# Altium integrated library Analog Devices Data Converters Analog-to-Digital Converters.IntLib: 2400 symbols (part 197 of 338)
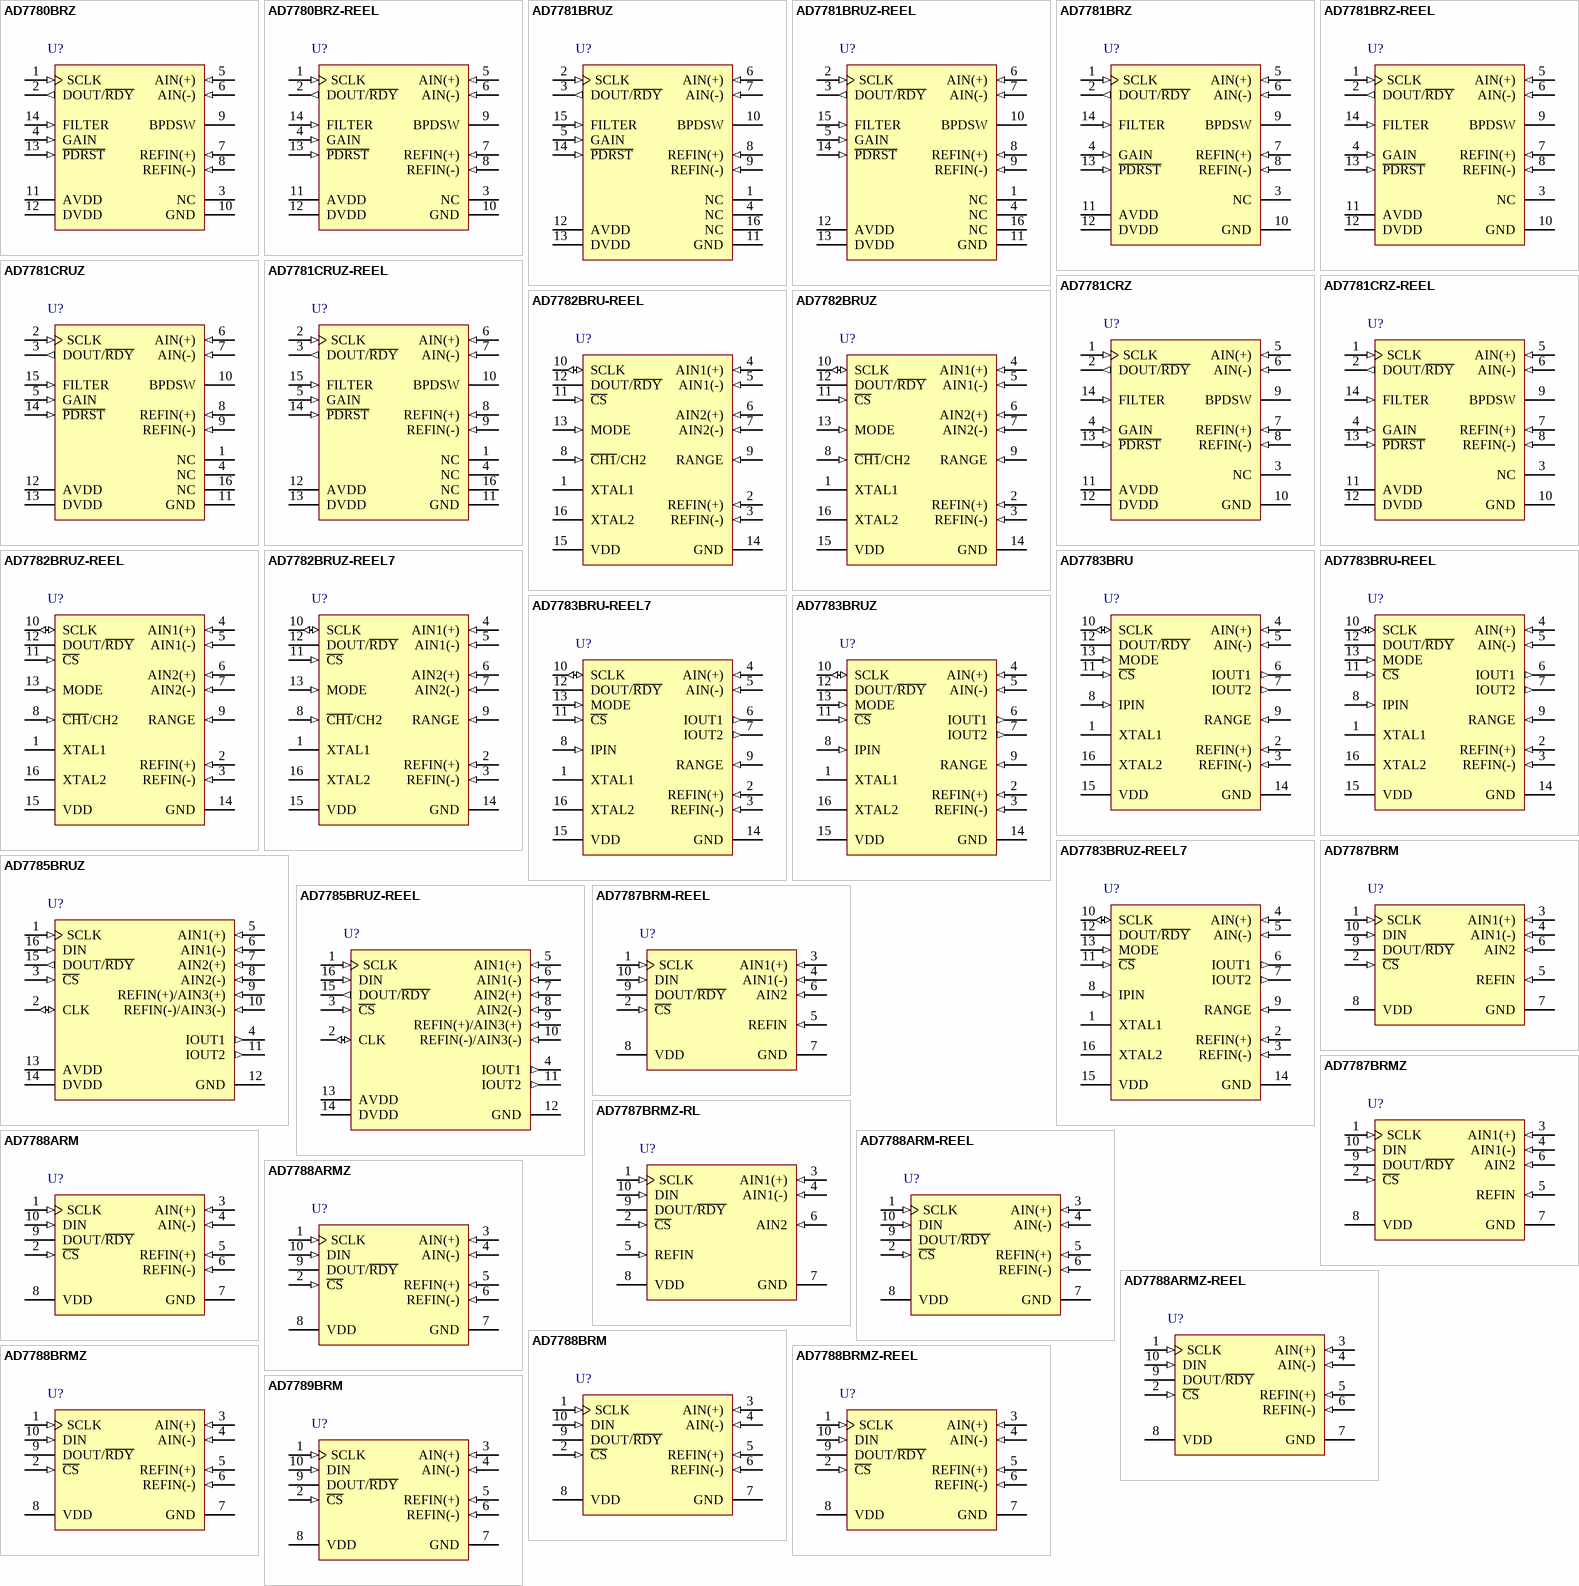
[diagram p264: symbols AD7780BRZ to AD7789BRM]

## AD7782BRU-REEL
designator U?
Dual 24-Bit Sigma-Delta Analog-to-Digital Converter with Serial, SPI Interface, 19.79SPS, -40 to +85 degC, RU-16, Reel; Part Number: AD7782; Manufacturer: Analog Devices; Resolution (Bits): 24; Channels: 2; Throughput Rate (SPS): 19.79; Interface: Ser, SPI; DatasheetVersion: Rev.A; PackageVersion: Nov-2002; PackageReference: RU-16; PackageDescription: 16-Lead Thin Shrink Small Outline Package [TSSOP]; RoHS: N; Packing: Reel; Mounting Technology: Surface Mount; Code_JEDEC: MO-153-AB; ComponentLink1Description: Manufacturer URL; ComponentLink1URL: http://www.analog.com/en/index.html; ComponentLink2Description: Datasheet; ComponentLink2URL: http://www.analog.com/static/imported-files/data_sheets/AD7782.pdf; ComponentLink3Description: Package Specification; ComponentLink3URL: http://www.analog.com/static/imported-files/packages/36244347913743854010197452789RU16.pdf; ComponentLink4Description: Product URL; ComponentLink4URL: http://www.analog.com/en/analog-to-digital-converters/ad-converters/ad7782/products/product.html
footprint RU-16_N (TSOP, 16-Leads, Body 5x4.4mm, Pitch 0.65mm, IPC Medium Density)
footprint RU-16_L (TSOP, 16-Leads, Body 5x4.4mm, Pitch 0.65mm, IPC High Density)
footprint RU-16_M (TSOP, 16-Leads, Body 5x4.4mm, Pitch 0.65mm, IPC Low Density)
pins: 1 XTAL1 "Input to the 32.768 kHz Crystal Oscillator Inverter.", 2 REFIN(+) (in) "Positive Reference Input. REFIN(+) can lie anywhere between VDD and GND +1 V. The nominal reference voltage (REFIN(+) - REFIN(-)) is 2.5 V, but the part functions with a reference from 1 V to VDD.", 3 REFIN(-) (in) "Negative Reference Input. This reference input can lie anywhere between GND and VDD - 1 V.", 4 AIN1(+) (in) "Analog Input. AIN1(+) is the positive terminal of the fully-differential analog input pair AIN1(+)/AIN1(-).", 5 AIN1(-) (in) "Analog Input. AIN1(-) is the negative terminal of the fully-differential analog input pair AIN1(+)/AIN1(-).", 6 AIN2(+) (in) "Analog Input. AIN2(+) is the positive terminal of the fully-differential analog input pair AIN2(+)/AIN2(-).", 7 AIN2(-) (in) "Analog Input. AIN2(-) is the negative terminal of the fully-differential analog input pair AIN2(+)/AIN2(-).", 8 ~{CH1}/CH2 (in) "Channel Select, Logic Input. With C\H\1\/CH2 = 0, channel AIN1(+)/AIN1(-) is selected while the active channel is AIN2(+)/AIN2(-) when C\H\1\/CH2 = 1.", 9 RANGE (in) "Logic Input which configures the input range on the internal PGA. With RANGE = 0, the full-scale input range is +/-160 mV while the full-scale input range equals +/-2.56 V when RANGE = 1 for a +2.5 V Reference.", 10 SCLK (io) "Serial Clock Input/Output for Data Transfers from the ADC. When the device is operated in master mode SCLK is an output with one SCLK period equal to one XTAL period. In slave mode, SCLK is generated by an external source. (See Datasheet)", 11 ~{CS} (in) "Chip Select Input. C\S\ is an active low logic input used to select the AD7782. When C\S\ is low, the PLL establishes lock and allows the AD7782 to initiate a conversion on the selected channel. When C\S\ is high,the (See Datasheet)", 12 DOUT/~{RDY} (hiz) "Serial Data Output/Data Ready Output. DOUT/R\D\Y\ serves a dual purpose in this interface. When a conversion is initiated, DOUT/R\D\Y\ goes high and remains high until the conversion is complete. DOUT/R\D\Y\ will then return (See Datasheet)", 13 MODE (in) "The MODE pin selects master or slave mode of operation. When MODE = 0, the AD7782 operates in master mode while the AD7782 is configured for slave mode when MODE = 1.", 14 GND (power) "Ground Reference Point for the AD7782.", 15 VDD (power) "Supply Voltage, 3 V or 5 V Nominal.", 16 XTAL2 "Output from the 32.768 kHz Crystal Oscillator Inverter."

## AD7782BRUZ
designator U?
Dual 24-Bit Sigma-Delta Analog-to-Digital Converter with Serial, SPI Interface, 19.79SPS, -40 to +85 degC, RU-16, Pb-Free, Tube; Part Number: AD7782; Manufacturer: Analog Devices; Resolution (Bits): 24; Channels: 2; Throughput Rate (SPS): 19.79; Interface: Ser, SPI; DatasheetVersion: Rev.A; PackageVersion: Nov-2002; PackageReference: RU-16; PackageDescription: 16-Lead Thin Shrink Small Outline Package [TSSOP]; RoHS: Y; Packing: Tube; Mounting Technology: Surface Mount; Code_JEDEC: MO-153-AB; ComponentLink1Description: Manufacturer URL; ComponentLink1URL: http://www.analog.com/en/index.html; ComponentLink2Description: Datasheet; ComponentLink2URL: http://www.analog.com/static/imported-files/data_sheets/AD7782.pdf; ComponentLink3Description: Package Specification; ComponentLink3URL: http://www.analog.com/static/imported-files/packages/36244347913743854010197452789RU16.pdf; ComponentLink4Description: Product URL; ComponentLink4URL: http://www.analog.com/en/analog-to-digital-converters/ad-converters/ad7782/products/product.html
footprint RU-16_N (TSOP, 16-Leads, Body 5x4.4mm, Pitch 0.65mm, IPC Medium Density)
footprint RU-16_L (TSOP, 16-Leads, Body 5x4.4mm, Pitch 0.65mm, IPC High Density)
footprint RU-16_M (TSOP, 16-Leads, Body 5x4.4mm, Pitch 0.65mm, IPC Low Density)
pins: 1 XTAL1 "Input to the 32.768 kHz Crystal Oscillator Inverter.", 2 REFIN(+) (in) "Positive Reference Input. REFIN(+) can lie anywhere between VDD and GND +1 V. The nominal reference voltage (REFIN(+) - REFIN(-)) is 2.5 V, but the part functions with a reference from 1 V to VDD.", 3 REFIN(-) (in) "Negative Reference Input. This reference input can lie anywhere between GND and VDD - 1 V.", 4 AIN1(+) (in) "Analog Input. AIN1(+) is the positive terminal of the fully-differential analog input pair AIN1(+)/AIN1(-).", 5 AIN1(-) (in) "Analog Input. AIN1(-) is the negative terminal of the fully-differential analog input pair AIN1(+)/AIN1(-).", 6 AIN2(+) (in) "Analog Input. AIN2(+) is the positive terminal of the fully-differential analog input pair AIN2(+)/AIN2(-).", 7 AIN2(-) (in) "Analog Input. AIN2(-) is the negative terminal of the fully-differential analog input pair AIN2(+)/AIN2(-).", 8 ~{CH1}/CH2 (in) "Channel Select, Logic Input. With C\H\1\/CH2 = 0, channel AIN1(+)/AIN1(-) is selected while the active channel is AIN2(+)/AIN2(-) when C\H\1\/CH2 = 1.", 9 RANGE (in) "Logic Input which configures the input range on the internal PGA. With RANGE = 0, the full-scale input range is +/-160 mV while the full-scale input range equals +/-2.56 V when RANGE = 1 for a +2.5 V Reference.", 10 SCLK (io) "Serial Clock Input/Output for Data Transfers from the ADC. When the device is operated in master mode SCLK is an output with one SCLK period equal to one XTAL period. In slave mode, SCLK is generated by an external source. (See Datasheet)", 11 ~{CS} (in) "Chip Select Input. C\S\ is an active low logic input used to select the AD7782. When C\S\ is low, the PLL establishes lock and allows the AD7782 to initiate a conversion on the selected channel. When C\S\ is high,the (See Datasheet)", 12 DOUT/~{RDY} (hiz) "Serial Data Output/Data Ready Output. DOUT/R\D\Y\ serves a dual purpose in this interface. When a conversion is initiated, DOUT/R\D\Y\ goes high and remains high until the conversion is complete. DOUT/R\D\Y\ will then return (See Datasheet)", 13 MODE (in) "The MODE pin selects master or slave mode of operation. When MODE = 0, the AD7782 operates in master mode while the AD7782 is configured for slave mode when MODE = 1.", 14 GND (power) "Ground Reference Point for the AD7782.", 15 VDD (power) "Supply Voltage, 3 V or 5 V Nominal.", 16 XTAL2 "Output from the 32.768 kHz Crystal Oscillator Inverter."

## AD7782BRUZ-REEL
designator U?
Dual 24-Bit Sigma-Delta Analog-to-Digital Converter with Serial, SPI Interface, 19.79SPS, -40 to +85 degC, RU-16, Pb-Free, Reel; Part Number: AD7782; Manufacturer: Analog Devices; Resolution (Bits): 24; Channels: 2; Throughput Rate (SPS): 19.79; Interface: Ser, SPI; DatasheetVersion: Rev.A; PackageVersion: Nov-2002; PackageReference: RU-16; PackageDescription: 16-Lead Thin Shrink Small Outline Package [TSSOP]; RoHS: Y; Packing: Reel; Mounting Technology: Surface Mount; Code_JEDEC: MO-153-AB; ComponentLink1Description: Manufacturer URL; ComponentLink1URL: http://www.analog.com/en/index.html; ComponentLink2Description: Datasheet; ComponentLink2URL: http://www.analog.com/static/imported-files/data_sheets/AD7782.pdf; ComponentLink3Description: Package Specification; ComponentLink3URL: http://www.analog.com/static/imported-files/packages/36244347913743854010197452789RU16.pdf; ComponentLink4Description: Product URL; ComponentLink4URL: http://www.analog.com/en/analog-to-digital-converters/ad-converters/ad7782/products/product.html
footprint RU-16_N (TSOP, 16-Leads, Body 5x4.4mm, Pitch 0.65mm, IPC Medium Density)
footprint RU-16_L (TSOP, 16-Leads, Body 5x4.4mm, Pitch 0.65mm, IPC High Density)
footprint RU-16_M (TSOP, 16-Leads, Body 5x4.4mm, Pitch 0.65mm, IPC Low Density)
pins: 1 XTAL1 "Input to the 32.768 kHz Crystal Oscillator Inverter.", 2 REFIN(+) (in) "Positive Reference Input. REFIN(+) can lie anywhere between VDD and GND +1 V. The nominal reference voltage (REFIN(+) - REFIN(-)) is 2.5 V, but the part functions with a reference from 1 V to VDD.", 3 REFIN(-) (in) "Negative Reference Input. This reference input can lie anywhere between GND and VDD - 1 V.", 4 AIN1(+) (in) "Analog Input. AIN1(+) is the positive terminal of the fully-differential analog input pair AIN1(+)/AIN1(-).", 5 AIN1(-) (in) "Analog Input. AIN1(-) is the negative terminal of the fully-differential analog input pair AIN1(+)/AIN1(-).", 6 AIN2(+) (in) "Analog Input. AIN2(+) is the positive terminal of the fully-differential analog input pair AIN2(+)/AIN2(-).", 7 AIN2(-) (in) "Analog Input. AIN2(-) is the negative terminal of the fully-differential analog input pair AIN2(+)/AIN2(-).", 8 ~{CH1}/CH2 (in) "Channel Select, Logic Input. With C\H\1\/CH2 = 0, channel AIN1(+)/AIN1(-) is selected while the active channel is AIN2(+)/AIN2(-) when C\H\1\/CH2 = 1.", 9 RANGE (in) "Logic Input which configures the input range on the internal PGA. With RANGE = 0, the full-scale input range is +/-160 mV while the full-scale input range equals +/-2.56 V when RANGE = 1 for a +2.5 V Reference.", 10 SCLK (io) "Serial Clock Input/Output for Data Transfers from the ADC. When the device is operated in master mode SCLK is an output with one SCLK period equal to one XTAL period. In slave mode, SCLK is generated by an external source. (See Datasheet)", 11 ~{CS} (in) "Chip Select Input. C\S\ is an active low logic input used to select the AD7782. When C\S\ is low, the PLL establishes lock and allows the AD7782 to initiate a conversion on the selected channel. When C\S\ is high,the (See Datasheet)", 12 DOUT/~{RDY} (hiz) "Serial Data Output/Data Ready Output. DOUT/R\D\Y\ serves a dual purpose in this interface. When a conversion is initiated, DOUT/R\D\Y\ goes high and remains high until the conversion is complete. DOUT/R\D\Y\ will then return (See Datasheet)", 13 MODE (in) "The MODE pin selects master or slave mode of operation. When MODE = 0, the AD7782 operates in master mode while the AD7782 is configured for slave mode when MODE = 1.", 14 GND (power) "Ground Reference Point for the AD7782.", 15 VDD (power) "Supply Voltage, 3 V or 5 V Nominal.", 16 XTAL2 "Output from the 32.768 kHz Crystal Oscillator Inverter."

## AD7782BRUZ-REEL7
designator U?
Dual 24-Bit Sigma-Delta Analog-to-Digital Converter with Serial, SPI Interface, 19.79SPS, -40 to +85 degC, RU-16, Pb-Free, Reel; Part Number: AD7782; Manufacturer: Analog Devices; Resolution (Bits): 24; Channels: 2; Throughput Rate (SPS): 19.79; Interface: Ser, SPI; DatasheetVersion: Rev.A; PackageVersion: Nov-2002; PackageReference: RU-16; PackageDescription: 16-Lead Thin Shrink Small Outline Package [TSSOP]; RoHS: Y; Packing: Reel; Mounting Technology: Surface Mount; Code_JEDEC: MO-153-AB; ComponentLink1Description: Manufacturer URL; ComponentLink1URL: http://www.analog.com/en/index.html; ComponentLink2Description: Datasheet; ComponentLink2URL: http://www.analog.com/static/imported-files/data_sheets/AD7782.pdf; ComponentLink3Description: Package Specification; ComponentLink3URL: http://www.analog.com/static/imported-files/packages/36244347913743854010197452789RU16.pdf; ComponentLink4Description: Product URL; ComponentLink4URL: http://www.analog.com/en/analog-to-digital-converters/ad-converters/ad7782/products/product.html
footprint RU-16_N (TSOP, 16-Leads, Body 5x4.4mm, Pitch 0.65mm, IPC Medium Density)
footprint RU-16_L (TSOP, 16-Leads, Body 5x4.4mm, Pitch 0.65mm, IPC High Density)
footprint RU-16_M (TSOP, 16-Leads, Body 5x4.4mm, Pitch 0.65mm, IPC Low Density)
pins: 1 XTAL1 "Input to the 32.768 kHz Crystal Oscillator Inverter.", 2 REFIN(+) (in) "Positive Reference Input. REFIN(+) can lie anywhere between VDD and GND +1 V. The nominal reference voltage (REFIN(+) - REFIN(-)) is 2.5 V, but the part functions with a reference from 1 V to VDD.", 3 REFIN(-) (in) "Negative Reference Input. This reference input can lie anywhere between GND and VDD - 1 V.", 4 AIN1(+) (in) "Analog Input. AIN1(+) is the positive terminal of the fully-differential analog input pair AIN1(+)/AIN1(-).", 5 AIN1(-) (in) "Analog Input. AIN1(-) is the negative terminal of the fully-differential analog input pair AIN1(+)/AIN1(-).", 6 AIN2(+) (in) "Analog Input. AIN2(+) is the positive terminal of the fully-differential analog input pair AIN2(+)/AIN2(-).", 7 AIN2(-) (in) "Analog Input. AIN2(-) is the negative terminal of the fully-differential analog input pair AIN2(+)/AIN2(-).", 8 ~{CH1}/CH2 (in) "Channel Select, Logic Input. With C\H\1\/CH2 = 0, channel AIN1(+)/AIN1(-) is selected while the active channel is AIN2(+)/AIN2(-) when C\H\1\/CH2 = 1.", 9 RANGE (in) "Logic Input which configures the input range on the internal PGA. With RANGE = 0, the full-scale input range is +/-160 mV while the full-scale input range equals +/-2.56 V when RANGE = 1 for a +2.5 V Reference.", 10 SCLK (io) "Serial Clock Input/Output for Data Transfers from the ADC. When the device is operated in master mode SCLK is an output with one SCLK period equal to one XTAL period. In slave mode, SCLK is generated by an external source. (See Datasheet)", 11 ~{CS} (in) "Chip Select Input. C\S\ is an active low logic input used to select the AD7782. When C\S\ is low, the PLL establishes lock and allows the AD7782 to initiate a conversion on the selected channel. When C\S\ is high,the (See Datasheet)", 12 DOUT/~{RDY} (hiz) "Serial Data Output/Data Ready Output. DOUT/R\D\Y\ serves a dual purpose in this interface. When a conversion is initiated, DOUT/R\D\Y\ goes high and remains high until the conversion is complete. DOUT/R\D\Y\ will then return (See Datasheet)", 13 MODE (in) "The MODE pin selects master or slave mode of operation. When MODE = 0, the AD7782 operates in master mode while the AD7782 is configured for slave mode when MODE = 1.", 14 GND (power) "Ground Reference Point for the AD7782.", 15 VDD (power) "Supply Voltage, 3 V or 5 V Nominal.", 16 XTAL2 "Output from the 32.768 kHz Crystal Oscillator Inverter."

## AD7783BRU
designator U?
Single 24-Bit Sigma-Delta Analog-to-Digital Converter with Serial, SPI Interface, 19.79SPS, -40 to +85 degC, RU-16, Tube; Part Number: AD7783; Manufacturer: Analog Devices; Resolution (Bits): 24; Channels: 1; Throughput Rate (SPS): 19.79; Interface: Ser, SPI; DatasheetVersion: Rev.C; PackageVersion: Nov-2002; PackageReference: RU-16; PackageDescription: 16-Lead Thin Shrink Small Outline Package [TSSOP]; RoHS: N; Packing: Tube; Mounting Technology: Surface Mount; Code_JEDEC: MO-153-AB; ComponentLink1Description: Manufacturer URL; ComponentLink1URL: http://www.analog.com/en/index.html; ComponentLink2Description: Datasheet; ComponentLink2URL: http://www.analog.com/static/imported-files/data_sheets/AD7783.pdf; ComponentLink3Description: Package Specification; ComponentLink3URL: http://www.analog.com/static/imported-files/packages/36244347913743854010197452789RU16.pdf; ComponentLink4Description: Product URL; ComponentLink4URL: http://www.analog.com/en/analog-to-digital-converters/ad-converters/ad7783/products/product.html
footprint RU-16_N (TSOP, 16-Leads, Body 5x4.4mm, Pitch 0.65mm, IPC Medium Density)
footprint RU-16_L (TSOP, 16-Leads, Body 5x4.4mm, Pitch 0.65mm, IPC High Density)
footprint RU-16_M (TSOP, 16-Leads, Body 5x4.4mm, Pitch 0.65mm, IPC Low Density)
pins: 1 XTAL1 "Input to the 32.768 kHz Crystal Oscillator Inverter.", 2 REFIN(+) (in) "Positive Reference Input. REFIN(+) can lie anywhere between VDD and GND + 1 V. The nominal reference voltage (REFIN(+) - REFIN(-)) is 2.5 V, but the part functions with a reference from 1 V to VDD.", 3 REFIN(-) (in) "Negative Reference Input. This reference input can lie anywhere between GND and VDD - 1 V.", 4 AIN(+) (in) "Analog Input. AIN(+) is the positive terminal of the fully differential analog input pair AIN(+)/AIN(-).", 5 AIN(-) (in) "Analog Input. AIN(-) is the negative terminal of the fully differential analog input pair AIN(+)/AIN(-).", 6 IOUT1 (out) "Output from Internal 200 mA Excitation Current Source. Either current source IEXC1 or IEXC2 can be switched to this output using hardware control pin IPIN.", 7 IOUT2 (out) "Output from Internal 200 mA Excitation Current Source. Either current source IEXC1 or IEXC2 can be switched to this output using hardware control pin IPIN.", 8 IPIN (in) "Logic Input that Selects the Routing of the On-Chip Current Sources. When IPIN is tied to GND, IEXC1 is routed to IOUT1 and IEXC2 is routed to IOUT2. When IPIN is tied to VDD, IEXC1 is routed to IOUT2 and IEXC2 is routed to (See Datasheet)", 9 RANGE (in) "Logic Input that Configures the Input Range on the Internal PGA. With RANGE = 0, the full-scale input range is +/-160 mV; the full-scale input range equals +/-2.56 V when RANGE = 1 for a 2.5 V reference.", 10 SCLK (io) "Serial Clock Input/Output for Data Transfers from the ADC. When the device is operated in master mode,SCLK is an output with one SCLK period equal to one XTAL period. In slave mode, SCLK is generated by an external source. (See Datasheet)", 11 ~{CS} (in) "Chip Select Input. C\S\ is an active low logic input used to select the AD7783. When C\S\ is low, the PLL establishes lock and allows the AD7783 to initiate a conversion. When C\S\ is high, the conversion is aborted,DOUT and (See Datasheet)", 12 DOUT/~{RDY} (hiz) "Serial Data Output/Data Ready Output. DOUT/RDY serves a dual purpose in this interface. When a conversion is initiated, DOUT/RDY goes high and remains high until the conversion is complete. DOUT/RDY will then return low to (See Datasheet)", 13 MODE (in) "The MODE pin selects master or slave mode of operation. When MODE = 0, the AD7783 operates in master mode; the AD7783 is configured for slave mode when MODE = 1.", 14 GND (power) "Ground Reference Point for the AD7783.", 15 VDD (power) "Supply Voltage, 3 V or 5 V Nominal.", 16 XTAL2 "Output from the 32.768 kHz Crystal Oscillator Inverter."

## AD7783BRU-REEL
designator U?
Single 24-Bit Sigma-Delta Analog-to-Digital Converter with Serial, SPI Interface, 19.79SPS, -40 to +85 degC, RU-16, Reel; Part Number: AD7783; Manufacturer: Analog Devices; Resolution (Bits): 24; Channels: 1; Throughput Rate (SPS): 19.79; Interface: Ser, SPI; DatasheetVersion: Rev.C; PackageVersion: Nov-2002; PackageReference: RU-16; PackageDescription: 16-Lead Thin Shrink Small Outline Package [TSSOP]; RoHS: N; Packing: Reel; Mounting Technology: Surface Mount; Code_JEDEC: MO-153-AB; ComponentLink1Description: Manufacturer URL; ComponentLink1URL: http://www.analog.com/en/index.html; ComponentLink2Description: Datasheet; ComponentLink2URL: http://www.analog.com/static/imported-files/data_sheets/AD7783.pdf; ComponentLink3Description: Package Specification; ComponentLink3URL: http://www.analog.com/static/imported-files/packages/36244347913743854010197452789RU16.pdf; ComponentLink4Description: Product URL; ComponentLink4URL: http://www.analog.com/en/analog-to-digital-converters/ad-converters/ad7783/products/product.html
footprint RU-16_N (TSOP, 16-Leads, Body 5x4.4mm, Pitch 0.65mm, IPC Medium Density)
footprint RU-16_L (TSOP, 16-Leads, Body 5x4.4mm, Pitch 0.65mm, IPC High Density)
footprint RU-16_M (TSOP, 16-Leads, Body 5x4.4mm, Pitch 0.65mm, IPC Low Density)
pins: 1 XTAL1 "Input to the 32.768 kHz Crystal Oscillator Inverter.", 2 REFIN(+) (in) "Positive Reference Input. REFIN(+) can lie anywhere between VDD and GND + 1 V. The nominal reference voltage (REFIN(+) - REFIN(-)) is 2.5 V, but the part functions with a reference from 1 V to VDD.", 3 REFIN(-) (in) "Negative Reference Input. This reference input can lie anywhere between GND and VDD - 1 V.", 4 AIN(+) (in) "Analog Input. AIN(+) is the positive terminal of the fully differential analog input pair AIN(+)/AIN(-).", 5 AIN(-) (in) "Analog Input. AIN(-) is the negative terminal of the fully differential analog input pair AIN(+)/AIN(-).", 6 IOUT1 (out) "Output from Internal 200 mA Excitation Current Source. Either current source IEXC1 or IEXC2 can be switched to this output using hardware control pin IPIN.", 7 IOUT2 (out) "Output from Internal 200 mA Excitation Current Source. Either current source IEXC1 or IEXC2 can be switched to this output using hardware control pin IPIN.", 8 IPIN (in) "Logic Input that Selects the Routing of the On-Chip Current Sources. When IPIN is tied to GND, IEXC1 is routed to IOUT1 and IEXC2 is routed to IOUT2. When IPIN is tied to VDD, IEXC1 is routed to IOUT2 and IEXC2 is routed to (See Datasheet)", 9 RANGE (in) "Logic Input that Configures the Input Range on the Internal PGA. With RANGE = 0, the full-scale input range is +/-160 mV; the full-scale input range equals +/-2.56 V when RANGE = 1 for a 2.5 V reference.", 10 SCLK (io) "Serial Clock Input/Output for Data Transfers from the ADC. When the device is operated in master mode,SCLK is an output with one SCLK period equal to one XTAL period. In slave mode, SCLK is generated by an external source. (See Datasheet)", 11 ~{CS} (in) "Chip Select Input. C\S\ is an active low logic input used to select the AD7783. When C\S\ is low, the PLL establishes lock and allows the AD7783 to initiate a conversion. When C\S\ is high, the conversion is aborted,DOUT and (See Datasheet)", 12 DOUT/~{RDY} (hiz) "Serial Data Output/Data Ready Output. DOUT/RDY serves a dual purpose in this interface. When a conversion is initiated, DOUT/RDY goes high and remains high until the conversion is complete. DOUT/RDY will then return low to (See Datasheet)", 13 MODE (in) "The MODE pin selects master or slave mode of operation. When MODE = 0, the AD7783 operates in master mode; the AD7783 is configured for slave mode when MODE = 1.", 14 GND (power) "Ground Reference Point for the AD7783.", 15 VDD (power) "Supply Voltage, 3 V or 5 V Nominal.", 16 XTAL2 "Output from the 32.768 kHz Crystal Oscillator Inverter."

## AD7783BRU-REEL7
designator U?
Single 24-Bit Sigma-Delta Analog-to-Digital Converter with Serial, SPI Interface, 19.79SPS, -40 to +85 degC, RU-16, Reel; Part Number: AD7783; Manufacturer: Analog Devices; Resolution (Bits): 24; Channels: 1; Throughput Rate (SPS): 19.79; Interface: Ser, SPI; DatasheetVersion: Rev.C; PackageVersion: Nov-2002; PackageReference: RU-16; PackageDescription: 16-Lead Thin Shrink Small Outline Package [TSSOP]; RoHS: N; Packing: Reel; Mounting Technology: Surface Mount; Code_JEDEC: MO-153-AB; ComponentLink1Description: Manufacturer URL; ComponentLink1URL: http://www.analog.com/en/index.html; ComponentLink2Description: Datasheet; ComponentLink2URL: http://www.analog.com/static/imported-files/data_sheets/AD7783.pdf; ComponentLink3Description: Package Specification; ComponentLink3URL: http://www.analog.com/static/imported-files/packages/36244347913743854010197452789RU16.pdf; ComponentLink4Description: Product URL; ComponentLink4URL: http://www.analog.com/en/analog-to-digital-converters/ad-converters/ad7783/products/product.html
footprint RU-16_N (TSOP, 16-Leads, Body 5x4.4mm, Pitch 0.65mm, IPC Medium Density)
footprint RU-16_L (TSOP, 16-Leads, Body 5x4.4mm, Pitch 0.65mm, IPC High Density)
footprint RU-16_M (TSOP, 16-Leads, Body 5x4.4mm, Pitch 0.65mm, IPC Low Density)
pins: 1 XTAL1 "Input to the 32.768 kHz Crystal Oscillator Inverter.", 2 REFIN(+) (in) "Positive Reference Input. REFIN(+) can lie anywhere between VDD and GND + 1 V. The nominal reference voltage (REFIN(+) - REFIN(-)) is 2.5 V, but the part functions with a reference from 1 V to VDD.", 3 REFIN(-) (in) "Negative Reference Input. This reference input can lie anywhere between GND and VDD - 1 V.", 4 AIN(+) (in) "Analog Input. AIN(+) is the positive terminal of the fully differential analog input pair AIN(+)/AIN(-).", 5 AIN(-) (in) "Analog Input. AIN(-) is the negative terminal of the fully differential analog input pair AIN(+)/AIN(-).", 6 IOUT1 (out) "Output from Internal 200 mA Excitation Current Source. Either current source IEXC1 or IEXC2 can be switched to this output using hardware control pin IPIN.", 7 IOUT2 (out) "Output from Internal 200 mA Excitation Current Source. Either current source IEXC1 or IEXC2 can be switched to this output using hardware control pin IPIN.", 8 IPIN (in) "Logic Input that Selects the Routing of the On-Chip Current Sources. When IPIN is tied to GND, IEXC1 is routed to IOUT1 and IEXC2 is routed to IOUT2. When IPIN is tied to VDD, IEXC1 is routed to IOUT2 and IEXC2 is routed to (See Datasheet)", 9 RANGE (in) "Logic Input that Configures the Input Range on the Internal PGA. With RANGE = 0, the full-scale input range is +/-160 mV; the full-scale input range equals +/-2.56 V when RANGE = 1 for a 2.5 V reference.", 10 SCLK (io) "Serial Clock Input/Output for Data Transfers from the ADC. When the device is operated in master mode,SCLK is an output with one SCLK period equal to one XTAL period. In slave mode, SCLK is generated by an external source. (See Datasheet)", 11 ~{CS} (in) "Chip Select Input. C\S\ is an active low logic input used to select the AD7783. When C\S\ is low, the PLL establishes lock and allows the AD7783 to initiate a conversion. When C\S\ is high, the conversion is aborted,DOUT and (See Datasheet)", 12 DOUT/~{RDY} (hiz) "Serial Data Output/Data Ready Output. DOUT/RDY serves a dual purpose in this interface. When a conversion is initiated, DOUT/RDY goes high and remains high until the conversion is complete. DOUT/RDY will then return low to (See Datasheet)", 13 MODE (in) "The MODE pin selects master or slave mode of operation. When MODE = 0, the AD7783 operates in master mode; the AD7783 is configured for slave mode when MODE = 1.", 14 GND (power) "Ground Reference Point for the AD7783.", 15 VDD (power) "Supply Voltage, 3 V or 5 V Nominal.", 16 XTAL2 "Output from the 32.768 kHz Crystal Oscillator Inverter."

## AD7783BRUZ
designator U?
Single 24-Bit Sigma-Delta Analog-to-Digital Converter with Serial, SPI Interface, 19.79SPS, -40 to +85 degC, RU-16, Pb-Free, Tube; Part Number: AD7783; Manufacturer: Analog Devices; Resolution (Bits): 24; Channels: 1; Throughput Rate (SPS): 19.79; Interface: Ser, SPI; DatasheetVersion: Rev.C; PackageVersion: Nov-2002; PackageReference: RU-16; PackageDescription: 16-Lead Thin Shrink Small Outline Package [TSSOP]; RoHS: Y; Packing: Tube; Mounting Technology: Surface Mount; Code_JEDEC: MO-153-AB; ComponentLink1Description: Manufacturer URL; ComponentLink1URL: http://www.analog.com/en/index.html; ComponentLink2Description: Datasheet; ComponentLink2URL: http://www.analog.com/static/imported-files/data_sheets/AD7783.pdf; ComponentLink3Description: Package Specification; ComponentLink3URL: http://www.analog.com/static/imported-files/packages/36244347913743854010197452789RU16.pdf; ComponentLink4Description: Product URL; ComponentLink4URL: http://www.analog.com/en/analog-to-digital-converters/ad-converters/ad7783/products/product.html
footprint RU-16_N (TSOP, 16-Leads, Body 5x4.4mm, Pitch 0.65mm, IPC Medium Density)
footprint RU-16_L (TSOP, 16-Leads, Body 5x4.4mm, Pitch 0.65mm, IPC High Density)
footprint RU-16_M (TSOP, 16-Leads, Body 5x4.4mm, Pitch 0.65mm, IPC Low Density)
pins: 1 XTAL1 "Input to the 32.768 kHz Crystal Oscillator Inverter.", 2 REFIN(+) (in) "Positive Reference Input. REFIN(+) can lie anywhere between VDD and GND + 1 V. The nominal reference voltage (REFIN(+) - REFIN(-)) is 2.5 V, but the part functions with a reference from 1 V to VDD.", 3 REFIN(-) (in) "Negative Reference Input. This reference input can lie anywhere between GND and VDD - 1 V.", 4 AIN(+) (in) "Analog Input. AIN(+) is the positive terminal of the fully differential analog input pair AIN(+)/AIN(-).", 5 AIN(-) (in) "Analog Input. AIN(-) is the negative terminal of the fully differential analog input pair AIN(+)/AIN(-).", 6 IOUT1 (out) "Output from Internal 200 mA Excitation Current Source. Either current source IEXC1 or IEXC2 can be switched to this output using hardware control pin IPIN.", 7 IOUT2 (out) "Output from Internal 200 mA Excitation Current Source. Either current source IEXC1 or IEXC2 can be switched to this output using hardware control pin IPIN.", 8 IPIN (in) "Logic Input that Selects the Routing of the On-Chip Current Sources. When IPIN is tied to GND, IEXC1 is routed to IOUT1 and IEXC2 is routed to IOUT2. When IPIN is tied to VDD, IEXC1 is routed to IOUT2 and IEXC2 is routed to (See Datasheet)", 9 RANGE (in) "Logic Input that Configures the Input Range on the Internal PGA. With RANGE = 0, the full-scale input range is +/-160 mV; the full-scale input range equals +/-2.56 V when RANGE = 1 for a 2.5 V reference.", 10 SCLK (io) "Serial Clock Input/Output for Data Transfers from the ADC. When the device is operated in master mode,SCLK is an output with one SCLK period equal to one XTAL period. In slave mode, SCLK is generated by an external source. (See Datasheet)", 11 ~{CS} (in) "Chip Select Input. C\S\ is an active low logic input used to select the AD7783. When C\S\ is low, the PLL establishes lock and allows the AD7783 to initiate a conversion. When C\S\ is high, the conversion is aborted,DOUT and (See Datasheet)", 12 DOUT/~{RDY} (hiz) "Serial Data Output/Data Ready Output. DOUT/RDY serves a dual purpose in this interface. When a conversion is initiated, DOUT/RDY goes high and remains high until the conversion is complete. DOUT/RDY will then return low to (See Datasheet)", 13 MODE (in) "The MODE pin selects master or slave mode of operation. When MODE = 0, the AD7783 operates in master mode; the AD7783 is configured for slave mode when MODE = 1.", 14 GND (power) "Ground Reference Point for the AD7783.", 15 VDD (power) "Supply Voltage, 3 V or 5 V Nominal.", 16 XTAL2 "Output from the 32.768 kHz Crystal Oscillator Inverter."

## AD7783BRUZ-REEL7
designator U?
Single 24-Bit Sigma-Delta Analog-to-Digital Converter with Serial, SPI Interface, 19.79SPS, -40 to +85 degC, RU-16, Pb-Free, Reel; Part Number: AD7783; Manufacturer: Analog Devices; Resolution (Bits): 24; Channels: 1; Throughput Rate (SPS): 19.79; Interface: Ser, SPI; DatasheetVersion: Rev.C; PackageVersion: Nov-2002; PackageReference: RU-16; PackageDescription: 16-Lead Thin Shrink Small Outline Package [TSSOP]; RoHS: Y; Packing: Reel; Mounting Technology: Surface Mount; Code_JEDEC: MO-153-AB; ComponentLink1Description: Manufacturer URL; ComponentLink1URL: http://www.analog.com/en/index.html; ComponentLink2Description: Datasheet; ComponentLink2URL: http://www.analog.com/static/imported-files/data_sheets/AD7783.pdf; ComponentLink3Description: Package Specification; ComponentLink3URL: http://www.analog.com/static/imported-files/packages/36244347913743854010197452789RU16.pdf; ComponentLink4Description: Product URL; ComponentLink4URL: http://www.analog.com/en/analog-to-digital-converters/ad-converters/ad7783/products/product.html
footprint RU-16_N (TSOP, 16-Leads, Body 5x4.4mm, Pitch 0.65mm, IPC Medium Density)
footprint RU-16_L (TSOP, 16-Leads, Body 5x4.4mm, Pitch 0.65mm, IPC High Density)
footprint RU-16_M (TSOP, 16-Leads, Body 5x4.4mm, Pitch 0.65mm, IPC Low Density)
pins: 1 XTAL1 "Input to the 32.768 kHz Crystal Oscillator Inverter.", 2 REFIN(+) (in) "Positive Reference Input. REFIN(+) can lie anywhere between VDD and GND + 1 V. The nominal reference voltage (REFIN(+) - REFIN(-)) is 2.5 V, but the part functions with a reference from 1 V to VDD.", 3 REFIN(-) (in) "Negative Reference Input. This reference input can lie anywhere between GND and VDD - 1 V.", 4 AIN(+) (in) "Analog Input. AIN(+) is the positive terminal of the fully differential analog input pair AIN(+)/AIN(-).", 5 AIN(-) (in) "Analog Input. AIN(-) is the negative terminal of the fully differential analog input pair AIN(+)/AIN(-).", 6 IOUT1 (out) "Output from Internal 200 mA Excitation Current Source. Either current source IEXC1 or IEXC2 can be switched to this output using hardware control pin IPIN.", 7 IOUT2 (out) "Output from Internal 200 mA Excitation Current Source. Either current source IEXC1 or IEXC2 can be switched to this output using hardware control pin IPIN.", 8 IPIN (in) "Logic Input that Selects the Routing of the On-Chip Current Sources. When IPIN is tied to GND, IEXC1 is routed to IOUT1 and IEXC2 is routed to IOUT2. When IPIN is tied to VDD, IEXC1 is routed to IOUT2 and IEXC2 is routed to (See Datasheet)", 9 RANGE (in) "Logic Input that Configures the Input Range on the Internal PGA. With RANGE = 0, the full-scale input range is +/-160 mV; the full-scale input range equals +/-2.56 V when RANGE = 1 for a 2.5 V reference.", 10 SCLK (io) "Serial Clock Input/Output for Data Transfers from the ADC. When the device is operated in master mode,SCLK is an output with one SCLK period equal to one XTAL period. In slave mode, SCLK is generated by an external source. (See Datasheet)", 11 ~{CS} (in) "Chip Select Input. C\S\ is an active low logic input used to select the AD7783. When C\S\ is low, the PLL establishes lock and allows the AD7783 to initiate a conversion. When C\S\ is high, the conversion is aborted,DOUT and (See Datasheet)", 12 DOUT/~{RDY} (hiz) "Serial Data Output/Data Ready Output. DOUT/RDY serves a dual purpose in this interface. When a conversion is initiated, DOUT/RDY goes high and remains high until the conversion is complete. DOUT/RDY will then return low to (See Datasheet)", 13 MODE (in) "The MODE pin selects master or slave mode of operation. When MODE = 0, the AD7783 operates in master mode; the AD7783 is configured for slave mode when MODE = 1.", 14 GND (power) "Ground Reference Point for the AD7783.", 15 VDD (power) "Supply Voltage, 3 V or 5 V Nominal.", 16 XTAL2 "Output from the 32.768 kHz Crystal Oscillator Inverter."

## AD7785BRUZ
designator U?
3 Channel 20-Bit Low Noise Low Power Sigma-Delta Analog-to-Digital Converter with Serial, SPI Interface and On-Chip In-Amp and Reference, 470SPS, -40 to +105 degC, RU-16, Pb-Free, Tube; Part Number: AD7785; Manufacturer: Analog Devices; Resolution (Bits): 20; Channels: 3; Throughput Rate (SPS): 470; Interface: Ser, SPI; DatasheetVersion: Rev.0; PackageVersion: Nov-2002; PackageReference: RU-16; PackageDescription: 16-Lead Thin Shrink Small Outline Package [TSSOP]; RoHS: Y; Packing: Tube; Mounting Technology: Surface Mount; Code_JEDEC: MO-153-AB; ComponentLink1Description: Manufacturer URL; ComponentLink1URL: http://www.analog.com/en/index.html; ComponentLink2Description: Datasheet; ComponentLink2URL: http://www.analog.com/static/imported-files/data_sheets/AD7785.pdf; ComponentLink3Description: Package Specification; ComponentLink3URL: http://www.analog.com/static/imported-files/packages/36244347913743854010197452789RU16.pdf; ComponentLink4Description: Product URL; ComponentLink4URL: http://www.analog.com/en/analog-to-digital-converters/ad-converters/ad7785/products/product.html
footprint RU-16_N (TSOP, 16-Leads, Body 5x4.4mm, Pitch 0.65mm, IPC Medium Density)
footprint RU-16_L (TSOP, 16-Leads, Body 5x4.4mm, Pitch 0.65mm, IPC High Density)
footprint RU-16_M (TSOP, 16-Leads, Body 5x4.4mm, Pitch 0.65mm, IPC Low Density)
pins: 1 SCLK (in) "Serial Clock Input. This serial clock input is for data transfers to and from the ADC. The SCLK has a Schmitttriggered input, making the interface suitable for opto-isolated applications. The serial clock can be continuous (See Datasheet)", 2 CLK (io) "Clock In/Clock Out. The internal clock can be made available at this pin. Alternatively, the internal clock can be disabled, and the ADC can be driven by an external clock. This allows several ADCs to be driven from a common (See Datasheet)", 3 ~{CS} (in) "Chip Select Input. This is an active low logic input used to select the ADC. C\S\ can be used to select the ADC in systems with more than one device on the serial bus or as a frame synchronization signal in communicating (See Datasheet)", 4 IOUT1 (out) "Output of Internal Excitation Current Source. The internal excitation current source can be made available at this pin. The excitation current source is programmable so that the current can be 10 uA, 210 uA, or 1 mA. Either (See Datasheet)", 5 AIN1(+) (in) "Analog Input. AIN1(+) is the positive terminal of the differential analog input pair AIN1(+)/AIN1(-).", 6 AIN1(-) (in) "Analog Input. AIN1(-) is the negative terminal of the differential analog input pair AIN1(+)/AIN1(-).", 7 AIN2(+) (in) "Analog Input. AIN2(+) is the positive terminal of the differential analog input pair AIN2(+)/AIN2(-).", 8 AIN2(-) (in) "Analog Input. AIN2(-) is the negative terminal of the differential analog input pair AIN2(+)/AIN2(-).", 9 REFIN(+)/AIN3(+) (in) "Positive Reference Input/Analog Input. An external reference can be applied between REFIN(+) and REFIN(-). REFIN(+) can lie anywhere between AVDD and GND + 0.1 V. The nominal reference voltage  REFIN(+) - REFIN(-) is 2.5 V, (See Datasheet)", 10 REFIN(-)/AIN3(-) (in) "Negative Reference Input/Analog Input. REFIN(-) is the negative reference input for REFIN. This reference input can lie anywhere between GND and AVDD - 0.1 V. This pin also functions as AIN3(-), which is the negative (See Datasheet)", 11 IOUT2 (out) "Output of Internal Excitation Current Source. The internal excitation current source can be made available at this pin. The excitation current source is programmable so that the current can be 10 uA, 210 uA, or 1 mA. Either (See Datasheet)", 12 GND (power) "Ground Reference Point.", 13 AVDD (power) "Supply Voltage, 2.7 V to 5.25 V.", 14 DVDD (power) "Digital Interface Supply Voltage. The logic levels for the serial interface pins are related to this supply, which is between 2.7 V and 5.25 V. The DVDD voltage is independent of the voltage on AVDD; therefore, AVDD can (See Datasheet)", 15 DOUT/~{RDY} (out) "Serial Data Output/Data Ready Output. DOUT/R\D\Y\ serves a dual purpose. It functions as a serial data output pin to access the output shift register of the ADC. The output shift register can contain data from any of the (See Datasheet)", 16 DIN (in) "Serial Data Input. This serial data input is to the input shift register on the ADC. Data in this shift register is transferred to the control registers within the ADC; the register selection bits of the communications (See Datasheet)"

## AD7785BRUZ-REEL
designator U?
3 Channel 20-Bit Low Noise Low Power Sigma-Delta Analog-to-Digital Converter with Serial, SPI Interface and On-Chip In-Amp and Reference, 470SPS, -40 to +105 degC, RU-16, Pb-Free, Reel; Part Number: AD7785; Manufacturer: Analog Devices; Resolution (Bits): 20; Channels: 3; Throughput Rate (SPS): 470; Interface: Ser, SPI; DatasheetVersion: Rev.0; PackageVersion: Nov-2002; PackageReference: RU-16; PackageDescription: 16-Lead Thin Shrink Small Outline Package [TSSOP]; RoHS: Y; Packing: Reel; Mounting Technology: Surface Mount; Code_JEDEC: MO-153-AB; ComponentLink1Description: Manufacturer URL; ComponentLink1URL: http://www.analog.com/en/index.html; ComponentLink2Description: Datasheet; ComponentLink2URL: http://www.analog.com/static/imported-files/data_sheets/AD7785.pdf; ComponentLink3Description: Package Specification; ComponentLink3URL: http://www.analog.com/static/imported-files/packages/36244347913743854010197452789RU16.pdf; ComponentLink4Description: Product URL; ComponentLink4URL: http://www.analog.com/en/analog-to-digital-converters/ad-converters/ad7785/products/product.html
footprint RU-16_N (TSOP, 16-Leads, Body 5x4.4mm, Pitch 0.65mm, IPC Medium Density)
footprint RU-16_L (TSOP, 16-Leads, Body 5x4.4mm, Pitch 0.65mm, IPC High Density)
footprint RU-16_M (TSOP, 16-Leads, Body 5x4.4mm, Pitch 0.65mm, IPC Low Density)
pins: 1 SCLK (in) "Serial Clock Input. This serial clock input is for data transfers to and from the ADC. The SCLK has a Schmitttriggered input, making the interface suitable for opto-isolated applications. The serial clock can be continuous (See Datasheet)", 2 CLK (io) "Clock In/Clock Out. The internal clock can be made available at this pin. Alternatively, the internal clock can be disabled, and the ADC can be driven by an external clock. This allows several ADCs to be driven from a common (See Datasheet)", 3 ~{CS} (in) "Chip Select Input. This is an active low logic input used to select the ADC. C\S\ can be used to select the ADC in systems with more than one device on the serial bus or as a frame synchronization signal in communicating (See Datasheet)", 4 IOUT1 (out) "Output of Internal Excitation Current Source. The internal excitation current source can be made available at this pin. The excitation current source is programmable so that the current can be 10 uA, 210 uA, or 1 mA. Either (See Datasheet)", 5 AIN1(+) (in) "Analog Input. AIN1(+) is the positive terminal of the differential analog input pair AIN1(+)/AIN1(-).", 6 AIN1(-) (in) "Analog Input. AIN1(-) is the negative terminal of the differential analog input pair AIN1(+)/AIN1(-).", 7 AIN2(+) (in) "Analog Input. AIN2(+) is the positive terminal of the differential analog input pair AIN2(+)/AIN2(-).", 8 AIN2(-) (in) "Analog Input. AIN2(-) is the negative terminal of the differential analog input pair AIN2(+)/AIN2(-).", 9 REFIN(+)/AIN3(+) (in) "Positive Reference Input/Analog Input. An external reference can be applied between REFIN(+) and REFIN(-). REFIN(+) can lie anywhere between AVDD and GND + 0.1 V. The nominal reference voltage  REFIN(+) - REFIN(-) is 2.5 V, (See Datasheet)", 10 REFIN(-)/AIN3(-) (in) "Negative Reference Input/Analog Input. REFIN(-) is the negative reference input for REFIN. This reference input can lie anywhere between GND and AVDD - 0.1 V. This pin also functions as AIN3(-), which is the negative (See Datasheet)", 11 IOUT2 (out) "Output of Internal Excitation Current Source. The internal excitation current source can be made available at this pin. The excitation current source is programmable so that the current can be 10 uA, 210 uA, or 1 mA. Either (See Datasheet)", 12 GND (power) "Ground Reference Point.", 13 AVDD (power) "Supply Voltage, 2.7 V to 5.25 V.", 14 DVDD (power) "Digital Interface Supply Voltage. The logic levels for the serial interface pins are related to this supply, which is between 2.7 V and 5.25 V. The DVDD voltage is independent of the voltage on AVDD; therefore, AVDD can (See Datasheet)", 15 DOUT/~{RDY} (out) "Serial Data Output/Data Ready Output. DOUT/R\D\Y\ serves a dual purpose. It functions as a serial data output pin to access the output shift register of the ADC. The output shift register can contain data from any of the (See Datasheet)", 16 DIN (in) "Serial Data Input. This serial data input is to the input shift register on the ADC. Data in this shift register is transferred to the control registers within the ADC; the register selection bits of the communications (See Datasheet)"

## AD7787BRM
designator U?
Dual 24-Bit Low Power Sigma-Delta Analog-to-Digital Converter with Serial, SPI Interface, 120SPS, -40 to +105 degC, RM-10, Tube; Part Number: AD7787; Manufacturer: Analog Devices; Resolution (Bits): 24; Channels: 2; Throughput Rate (SPS): 120; Interface: Ser, SPI; DatasheetVersion: Rev.0; PackageVersion: May-2005; PackageReference: RM-10; PackageDescription: 10-Lead Mini Small Outline Package [MSOP]; RoHS: N; Packing: Tube; Mounting Technology: Surface Mount; ComponentLink1Description: Manufacturer URL; ComponentLink1URL: http://www.analog.com/en/index.html; ComponentLink2Description: Datasheet; ComponentLink2URL: http://www.analog.com/static/imported-files/data_sheets/AD7787.pdf; ComponentLink3Description: Package Specification; ComponentLink3URL: http://www.analog.com/static/imported-files/packages/PKG_PDF/MSOP%28RM%29/RM_10.pdf; ComponentLink4Description: Product URL; ComponentLink4URL: http://www.analog.com/en/analog-to-digital-converters/ad-converters/ad7787/products/product.html
footprint RM-10_N (TSSOP, 10-Leads, Body 3x3mm, Pitch 0.5mm, IPC Medium Density)
footprint RM-10_L (TSSOP, 10-Leads, Body 3x3mm, Pitch 0.5mm, IPC High Density)
footprint RM-10_M (TSSOP, 10-Leads, Body 3x3mm, Pitch 0.5mm, IPC Low Density)
pins: 1 SCLK (in) "Serial Clock Input for Data Transfers to and from the ADC. The SCLK has a Schmitt-triggered input, making the interface suitable for opto-isolated applications. The serial clock can be continuous with all data transmitted in (See Datasheet)", 2 ~{CS} (in) "Chip Select Input. This is an active low logic input used to select the ADC. C\S\ can be used to select the ADC in systems with more than one device on the serial bus or as a frame synchronization signal in communicating (See Datasheet)", 3 AIN1(+) (in) "Analog Input. AIN1(+) is the positive terminal of the differential analog input pair AIN1(+)/AIN1(-).", 4 AIN1(-) (in) "Analog Input. AIN1(-) is the negative terminal of the differential analog input pair AIN1(+)/AIN1(-).", 5 REFIN (in) "Reference Input. REFIN can be anywhere between VDD and GND + 0.1 V. The nominal reference voltage is 2.5 V, but the part functions with a reference from 0.1 V to VDD.", 6 AIN2 (in) "Analog Input. AIN2 is a single-ended analog input.", 7 GND (power) "Ground Reference Point.", 8 VDD (power) "Supply Voltage, 2.5 V to 5.25 V.", 9 DOUT/~{RDY} (hiz) "Serial Data Output/Data Ready Output. DOUT/R\D\Y\ serves a dual purpose. It functions as a serial data output pin to access the output shift register of the ADC. The output shift register can contain data from any of the (See Datasheet)", 10 DIN (in) "Serial Data Input to the Input Shift Register on the ADC. Data in this shift register is transferred to the control registers within the ADC; the register selection bits of the communications register identifying the (See Datasheet)"

## AD7787BRM-REEL
designator U?
Dual 24-Bit Low Power Sigma-Delta Analog-to-Digital Converter with Serial, SPI Interface, 120SPS, -40 to +105 degC, RM-10, Reel; Part Number: AD7787; Manufacturer: Analog Devices; Resolution (Bits): 24; Channels: 2; Throughput Rate (SPS): 120; Interface: Ser, SPI; DatasheetVersion: Rev.0; PackageVersion: May-2005; PackageReference: RM-10; PackageDescription: 10-Lead Mini Small Outline Package [MSOP]; RoHS: N; Packing: Reel; Mounting Technology: Surface Mount; ComponentLink1Description: Manufacturer URL; ComponentLink1URL: http://www.analog.com/en/index.html; ComponentLink2Description: Datasheet; ComponentLink2URL: http://www.analog.com/static/imported-files/data_sheets/AD7787.pdf; ComponentLink3Description: Package Specification; ComponentLink3URL: http://www.analog.com/static/imported-files/packages/PKG_PDF/MSOP%28RM%29/RM_10.pdf; ComponentLink4Description: Product URL; ComponentLink4URL: http://www.analog.com/en/analog-to-digital-converters/ad-converters/ad7787/products/product.html
footprint RM-10_N (TSSOP, 10-Leads, Body 3x3mm, Pitch 0.5mm, IPC Medium Density)
footprint RM-10_L (TSSOP, 10-Leads, Body 3x3mm, Pitch 0.5mm, IPC High Density)
footprint RM-10_M (TSSOP, 10-Leads, Body 3x3mm, Pitch 0.5mm, IPC Low Density)
pins: 1 SCLK (in) "Serial Clock Input for Data Transfers to and from the ADC. The SCLK has a Schmitt-triggered input, making the interface suitable for opto-isolated applications. The serial clock can be continuous with all data transmitted in (See Datasheet)", 2 ~{CS} (in) "Chip Select Input. This is an active low logic input used to select the ADC. C\S\ can be used to select the ADC in systems with more than one device on the serial bus or as a frame synchronization signal in communicating (See Datasheet)", 3 AIN1(+) (in) "Analog Input. AIN1(+) is the positive terminal of the differential analog input pair AIN1(+)/AIN1(-).", 4 AIN1(-) (in) "Analog Input. AIN1(-) is the negative terminal of the differential analog input pair AIN1(+)/AIN1(-).", 5 REFIN (in) "Reference Input. REFIN can be anywhere between VDD and GND + 0.1 V. The nominal reference voltage is 2.5 V, but the part functions with a reference from 0.1 V to VDD.", 6 AIN2 (in) "Analog Input. AIN2 is a single-ended analog input.", 7 GND (power) "Ground Reference Point.", 8 VDD (power) "Supply Voltage, 2.5 V to 5.25 V.", 9 DOUT/~{RDY} (hiz) "Serial Data Output/Data Ready Output. DOUT/R\D\Y\ serves a dual purpose. It functions as a serial data output pin to access the output shift register of the ADC. The output shift register can contain data from any of the (See Datasheet)", 10 DIN (in) "Serial Data Input to the Input Shift Register on the ADC. Data in this shift register is transferred to the control registers within the ADC; the register selection bits of the communications register identifying the (See Datasheet)"